# EAGLE library part FT230X (library sensor)
QFN16 Type USB to UART transceiver
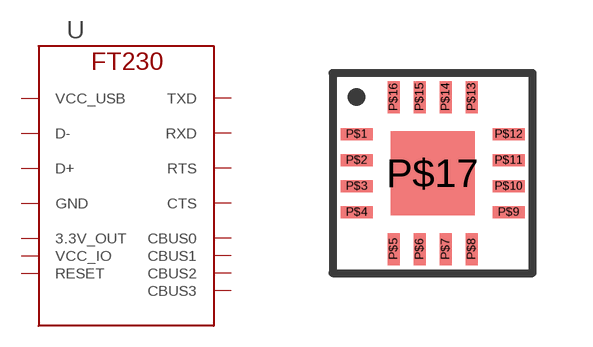
[diagram p4: symbol with the pads of QFN16_4X4; footprint QFN16_4X4]

Designator prefix U

## FT230X.  [QFN16_4X4]
P$1  VCC_IO  pwr
P$2  RXD
P$3  GND  pwr
P$4  CTS
P$5  CBUS2
P$6  D+
P$7  D-
P$8  3.3V_OUT  pwr
P$9  RESET
P$10  VCC_USB  pwr
P$11  CBUS1
P$12  CBUS0
P$13  GND  pwr
P$14  CBUS3
P$15  TXD
P$16  RTS
P$17  GND  pwr

## Footprint QFN16_4X4 (pad centres in mm)
smd 0.8 x 0.3: P$1 -1.9,0.975; P$2 -1.9,0.325; P$3 -1.9,-0.325; P$4 -1.9,-0.975; P$9 1.9,-0.975; P$10 1.9,-0.325; P$11 1.9,0.325; P$12 1.9,0.975
smd 0.3 x 0.8: P$5 -0.975,-1.9; P$6 -0.325,-1.9; P$7 0.325,-1.9; P$8 0.975,-1.9; P$13 0.975,1.9; P$14 0.325,1.9; P$15 -0.325,1.9; P$16 -0.975,1.9
smd 2.1 x 2.1: P$17 0,0